# Altium footprint library 532610371.PcbLib: 1 footprints
Each footprint in its own frame and in the unit in brackets; x right, y up, seen from the top. Pads: shape width x height; smd on the part's side, far side on the other; paste and mask are expansions set on the pad; w line width, h text height; cw(c..) or ccw(c..) is an arc to the next point about the centre after c.
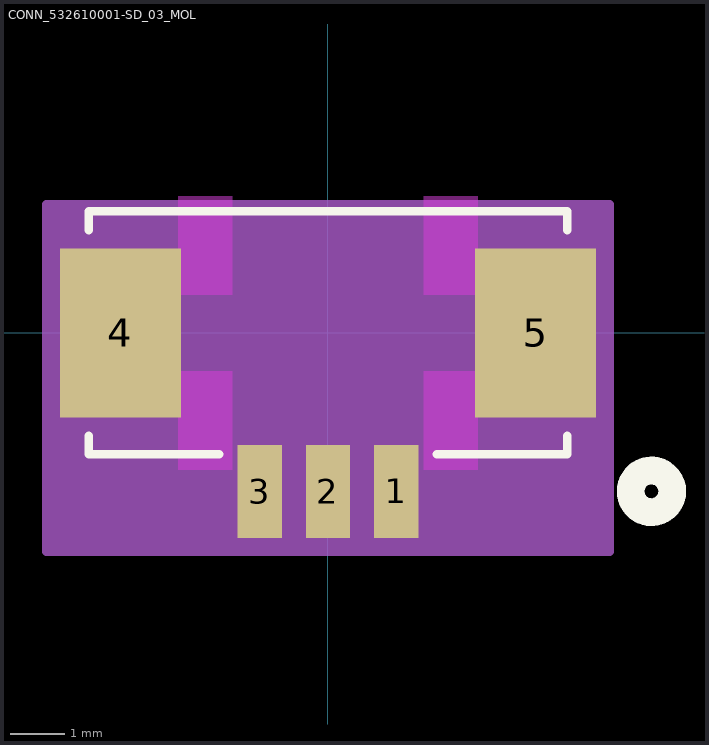
[diagram p0: the footprint, top view; thin cyan lines are the x and y axes]

## CONN_532610001-SD_03_MOL [mil]
pads (5):
  rect 32x67 smd paste+0 mask+0: 1(49.21,-114.35) 2(0,-114.35) 3(-49.21,-114.35)
  rect 87x122 smd paste+0 mask+0: 4(-149.61,-0.18) 5(149.61,-0.18)
Top Layer keep-out:
  region: -69.08,98.31 -108.08,98.31 -108.08,27.32 -69.08,27.32
  region: 108.08,98.31 69.08,98.31 69.08,27.32 108.08,27.32
  region: -69.08,-27.67 -108.08,-27.67 -108.08,-98.67 -69.08,-98.67
  region: 108.08,-27.67 69.08,-27.67 69.08,-98.67 108.08,-98.67
Top Overlay:
  circle w20: c233.11,-114.35 r15
  lines w6: -172.5,-74.28 -172.5,-87.5 -78.31,-87.5 ; -172.5,73.92 -172.5,87.5 172.5,87.5 172.5,73.92 ; 78.31,-87.5 172.5,-87.5 172.5,-74.28
Bottom Overlay:
  circle w20: c233.11,-114.35 r15
Mechanical 13:
  circle w20: c49.21,-114.35 r15
  lines w1: -167.5,-82.5 167.5,-82.5 167.5,82.5 -167.5,82.5 -167.5,-82.5
Mechanical 15:
  region: 203.11,92.5 -203.11,92.5 -203.11,-157.85 203.11,-157.85
  lines w6: -203.11,-157.85 -203.11,92.5 203.11,92.5 203.11,-157.85 -203.11,-157.85
3D body "0532610371.stp": height 125.98, standoff -7.87, extent -175.39,-127.36 175,77.36